# Altium integrated library Mini_USB.IntLib: 1 symbol
Pins are listed as number, name and electrical type; pins without a type are passive.

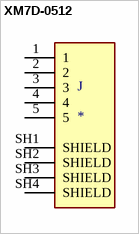
[diagram p0: symbol XM7D-0512]

## XM7D-0512
designator J
USB - mini B USB 2.0 Receptacle Connector 5 Position Through Hole, Right Angle; MF: Omron Electronics; MP: XM7D-0512; Package: None; Price: None; SnapEDA_Link: https://www.snapeda.com/parts/XM7D-0512/Omron%20Electronics%20Inc-EMC%20Div/view-part/52492/?ref=snap; Availability: Unavailable; Value: *
footprint OMRON_XM7D-0512
pins: 1, 2, 3, 4, 5, SH1 SHIELD, SH2 SHIELD, SH3 SHIELD, SH4 SHIELD